# EAGLE library part PHB_1MM27_2X32_* (library _hhn_con_pinhead_box_1mm27)
Pin Header Box-Type, 1.27mm/0.5"/50mil Pitch, 2x32 Circuits Note: see library description for an important note about THT-version
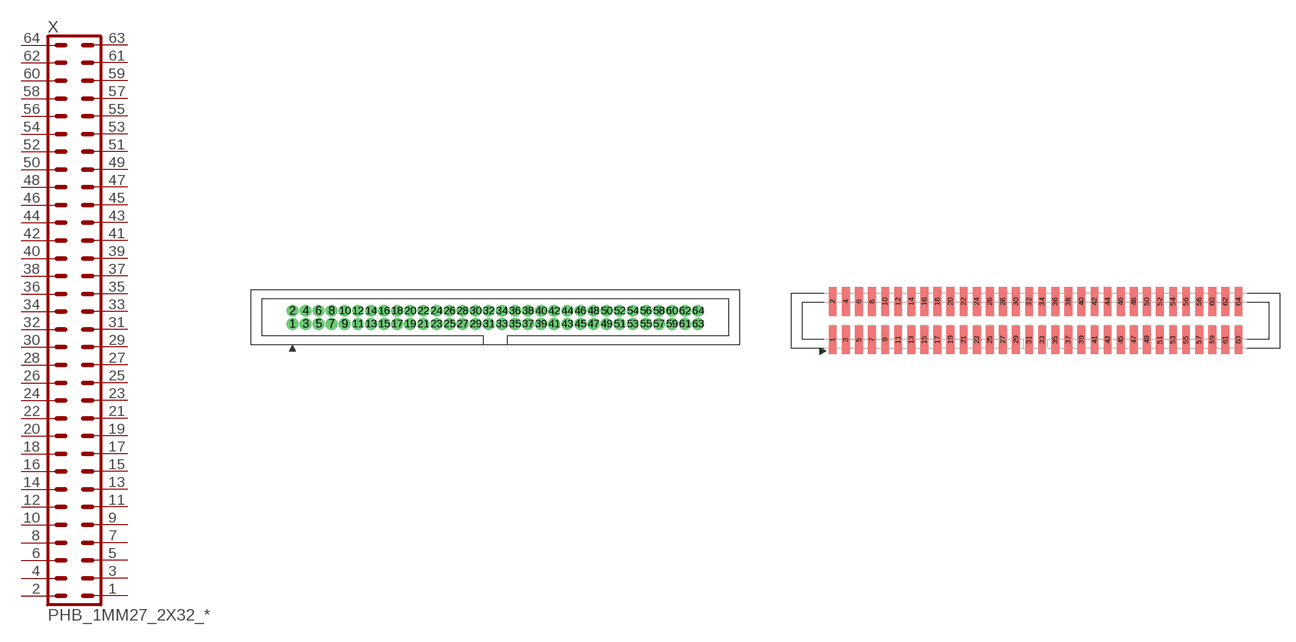
[diagram p4: symbol with the pads of PHB_1MM27_2X32_SNT; footprints PHB_1MM27_2X32_SNT, PHB_1MM27_2X32_SNS]

Designator prefix X

## PHB_1MM27_2X32_SNT  [PHB_1MM27_2X32_SNT]
1  1  pas
2  2  pas
3  3  pas
4  4  pas
5  5  pas
6  6  pas
7  7  pas
8  8  pas
9  9  pas
10  10  pas
11  11  pas
12  12  pas
13  13  pas
14  14  pas
15  15  pas
16  16  pas
17  17  pas
18  18  pas
19  19  pas
20  20  pas
21  21  pas
22  22  pas
23  23  pas
24  24  pas
25  25  pas
26  26  pas
27  27  pas
28  28  pas
29  29  pas
30  30  pas
31  31  pas
32  32  pas
33  33  pas
34  34  pas
35  35  pas
36  36  pas
37  37  pas
38  38  pas
39  39  pas
40  40  pas
41  41  pas
42  42  pas
43  43  pas
44  44  pas
45  45  pas
46  46  pas
47  47  pas
48  48  pas
49  49  pas
50  50  pas
51  51  pas
52  52  pas
53  53  pas
54  54  pas
55  55  pas
56  56  pas
57  57  pas
58  58  pas
59  59  pas
60  60  pas
61  61  pas
62  62  pas
63  63  pas
64  64  pas

## PHB_1MM27_2X32_SNS  [PHB_1MM27_2X32_SNS]
Pads as for PHB_1MM27_2X32_SNT

## Footprint PHB_1MM27_2X32_SNT (pad centres in mm)
Pin Header Box-Type, 1.27mm Pitch, 2x32 circuits, Straight, No Locking, THT Important Note regarding to THT-versions: see description of library
drill 0.65 round: 1 -19.685,-0.635; 2 -19.685,0.635; 3 -18.415,-0.635; 4 -18.415,0.635; 5 -17.145,-0.635; 6 -17.145,0.635; 7 -15.875,-0.635; 8 -15.875,0.635; 9 -14.605,-0.635; 10 -14.605,0.635; 11 -13.335,-0.635; 12 -13.335,0.635; 13 -12.065,-0.635; 14 -12.065,0.635; 15 -10.795,-0.635; 16 -10.795,0.635; 17 -9.525,-0.635; 18 -9.525,0.635; 19 -8.255,-0.635; 20 -8.255,0.635; 21 -6.985,-0.635; 22 -6.985,0.635; 23 -5.715,-0.635; 24 -5.715,0.635; 25 -4.445,-0.635; 26 -4.445,0.635; 27 -3.175,-0.635; 28 -3.175,0.635; 29 -1.905,-0.635; 30 -1.905,0.635; 31 -0.635,-0.635; 32 -0.635,0.635; 33 0.635,-0.635; 34 0.635,0.635; 35 1.905,-0.635; 36 1.905,0.635; 37 3.175,-0.635; 38 3.175,0.635; 39 4.445,-0.635; 40 4.445,0.635; 41 5.715,-0.635; 42 5.715,0.635; 43 6.985,-0.635; 44 6.985,0.635; 45 8.255,-0.635; 46 8.255,0.635; 47 9.525,-0.635; 48 9.525,0.635; 49 10.795,-0.635; 50 10.795,0.635; 51 12.065,-0.635; 52 12.065,0.635; 53 13.335,-0.635; 54 13.335,0.635; 55 14.605,-0.635; 56 14.605,0.635; 57 15.875,-0.635; 58 15.875,0.635; 59 17.145,-0.635; 60 17.145,0.635; 61 18.415,-0.635; 62 18.415,0.635; 63 19.685,-0.635; 64 19.685,0.635

## Footprint PHB_1MM27_2X32_SNS (pad centres in mm)
Pin Header Box-Type, 1.27mm Pitch, 2x32 circuits, Straight, No Locking, SMT
smd 0.76 x 2.8: 1 -19.685,-1.85; 2 -19.685,1.85; 3 -18.415,-1.85; 4 -18.415,1.85; 5 -17.145,-1.85; 6 -17.145,1.85; 7 -15.875,-1.85; 8 -15.875,1.85; 9 -14.605,-1.85; 10 -14.605,1.85; 11 -13.335,-1.85; 12 -13.335,1.85; 13 -12.065,-1.85; 14 -12.065,1.85; 15 -10.795,-1.85; 16 -10.795,1.85; 17 -9.525,-1.85; 18 -9.525,1.85; 19 -8.255,-1.85; 20 -8.255,1.85; 21 -6.985,-1.85; 22 -6.985,1.85; 23 -5.715,-1.85; 24 -5.715,1.85; 25 -4.445,-1.85; 26 -4.445,1.85; 27 -3.175,-1.85; 28 -3.175,1.85; 29 -1.905,-1.85; 30 -1.905,1.85; 31 -0.635,-1.85; 32 -0.635,1.85; 33 0.635,-1.85; 34 0.635,1.85; 35 1.905,-1.85; 36 1.905,1.85; 37 3.175,-1.85; 38 3.175,1.85; 39 4.445,-1.85; 40 4.445,1.85; 41 5.715,-1.85; 42 5.715,1.85; 43 6.985,-1.85; 44 6.985,1.85; 45 8.255,-1.85; 46 8.255,1.85; 47 9.525,-1.85; 48 9.525,1.85; 49 10.795,-1.85; 50 10.795,1.85; 51 12.065,-1.85; 52 12.065,1.85; 53 13.335,-1.85; 54 13.335,1.85; 55 14.605,-1.85; 56 14.605,1.85; 57 15.875,-1.85; 58 15.875,1.85; 59 17.145,-1.85; 60 17.145,1.85; 61 18.415,-1.85; 62 18.415,1.85; 63 19.685,-1.85; 64 19.685,1.85